# Altium schematic symbol library conn_program.SchLib: 18 symbols
Pins are listed as number, name and electrical type; pins without a type are passive.

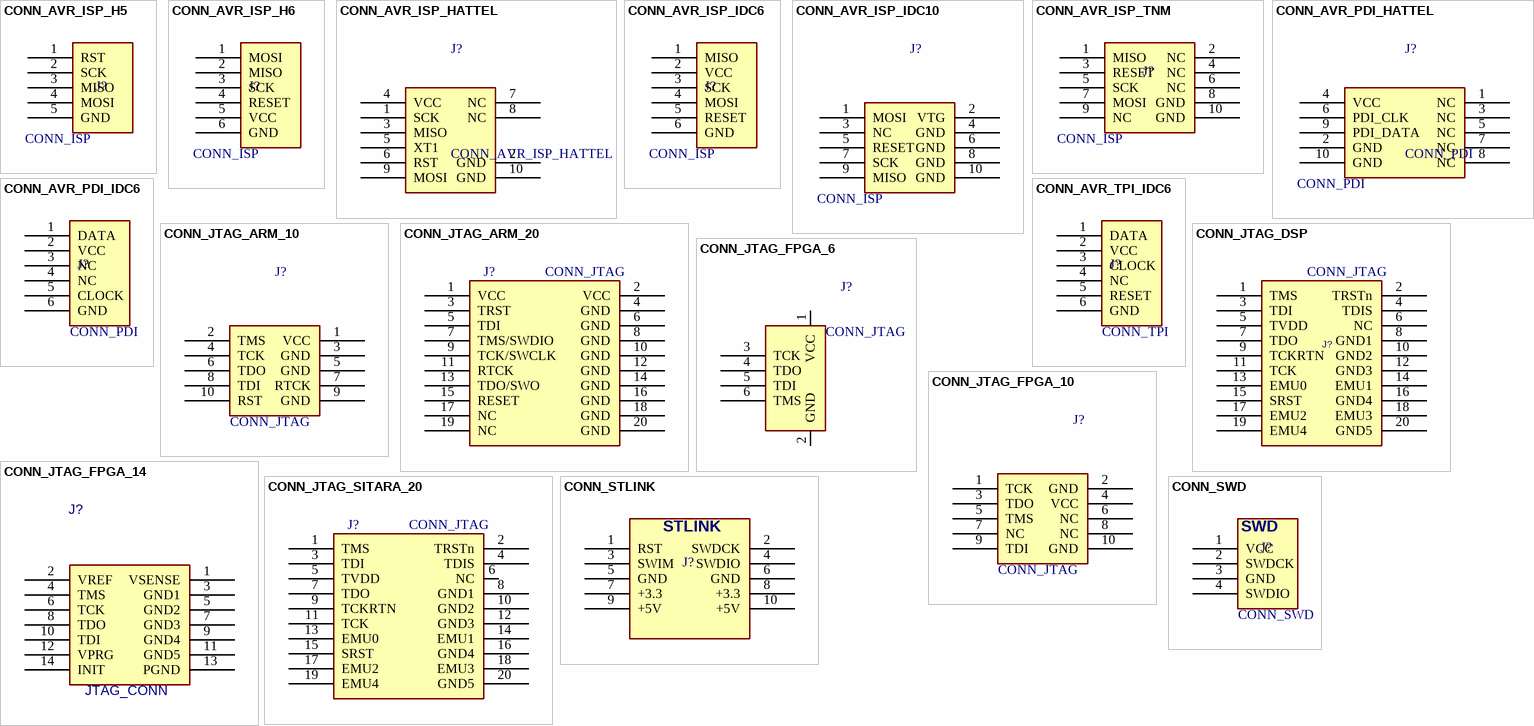
[diagram p0: symbols CONN_AVR_ISP_H5 to CONN_SWD]

## CONN_AVR_ISP_H5
designator J?, comment CONN_ISP
CONN, ISP, AVR; VALUE: CONN_ISP
footprint HDR_F_1X5 (HEADER FEMALE pitch: 2.54mm)
footprint HDR1SE_M_1X5 (HEADER, 1mm, test, SMD)
pins: 1 RST, 2 SCK, 3 MISO, 4 MOSI, 5 GND

## CONN_AVR_ISP_H6
designator J?, comment CONN_ISP
CONN, ISP, AVR ATMEGA32DIP, HEADER; VALUE: CONN_ISP
footprint HDR_F_1X6 (HEADER FEMALE pitch: 2.54mm)
pins: 1 MOSI, 2 MISO, 3 SCK, 4 RESET, 5 VCC, 6 GND

## CONN_AVR_ISP_HATTEL
designator J?
CONN, ISP, AVR, HATTEL; VALUE: CON_ISP
footprint IDC_2X5 (IDC, HEADER BOX 2X5, 10p, 2.54mm pitch)
pins: 1 SCK, 2 GND, 3 MISO, 4 VCC, 5 XT1, 6 RST, 7 NC, 8 NC, 9 MOSI, 10 GND

## CONN_AVR_ISP_IDC6
designator J?, comment CONN_ISP
CONN, ISP, AVR , HEADER BOX; VALUE: CONN_ISP
footprint IDC_2X3
pins: 1 MISO, 2 VCC, 3 SCK, 4 MOSI, 5 RESET, 6 GND

## CONN_AVR_ISP_IDC10
designator J?, comment CONN_ISP
CONN, ISP, AVR; VALUE: CONN_ISP
footprint IDC_2X5 (IDC, HEADER BOX 2X5, 10p, 2.54mm pitch)
pins: 1 MOSI, 2 VTG, 3 NC, 4 GND, 5 RESET, 6 GND, 7 SCK, 8 GND, 9 MISO, 10 GND

## CONN_AVR_ISP_TNM
designator J?, comment CONN_ISP
CONN, ISP, AVR Programmer TNM; VALUE: CONN_ISP
footprint IDC_2X5 (IDC, HEADER BOX 2X5, 10p, 2.54mm pitch)
pins: 1 MISO, 2 NC, 3 RESET, 4 NC, 5 SCK, 6 NC, 7 MOSI, 8 GND, 9 NC, 10 GND

## CONN_AVR_PDI_HATTEL
designator J?, comment CONN_PDI
CONN, ISP, AVR, PDI_HATTEL; VALUE: CONN_PDI
footprint IDC_2X5 (IDC, HEADER BOX 2X5, 10p, 2.54mm pitch)
pins: 1 NC, 2 GND, 3 NC, 4 VCC, 5 NC, 6 PDI_CLK, 7 NC, 8 NC, 9 PDI_DATA, 10 GND

## CONN_AVR_PDI_IDC6
designator J?, comment CONN_PDI
CONN, TPI, AVR , HEADER BOX; VALUE: CONN_PDI
footprint IDC_2X3
pins: 1 DATA, 2 VCC, 3 NC, 4 NC, 5 CLOCK, 6 GND

## CONN_AVR_TPI_IDC6
designator J?, comment CONN_TPI
CONN, TPI, AVR , HEADER BOX; VALUE: CONN_TPI
footprint IDC_2X3
pins: 1 DATA, 2 VCC, 3 CLOCK, 4 NC, 5 RESET, 6 GND

## CONN_JTAG_ARM_10
designator J?, comment CONN_JTAG
CONN, JTAG, ARM, 10P; VALUE: CONN_JTAG
footprint IDC_2X5 (IDC, HEADER BOX 2X5, 10p, 2.54mm pitch)
pins: 1 VCC, 2 TMS, 3 GND, 4 TCK, 5 GND, 6 TDO, 7 RTCK, 8 TDI, 9 GND, 10 RST

## CONN_JTAG_ARM_20
designator J?, comment CONN_JTAG
CONN, JTAG, ARM, 20P; VALUE: CONN_JTAG
footprint IDC_2X10
pins: 1 VCC, 2 VCC, 3 TRST, 4 GND, 5 TDI, 6 GND, 7 TMS/SWDIO, 8 GND, 9 TCK/SWCLK, 10 GND, 11 RTCK, 12 GND, 13 TDO/SWO, 14 GND, 15 RESET, 16 GND, 17 NC, 18 GND, 19 NC, 20 GND

## CONN_JTAG_DSP
designator J?, comment CONN_JTAG
CONN, JTAG, DSP, 20P; MANF: Samtec; MANF_P#: FTR-110-03-G-D-06; VALUE: CONN_JTAG
footprint HDRMINS_M_2X10 (FCI Minitek127® BTB, HEADER UNSHROUDED, SMT, 20   Part Number: 2002112100020D4LF)
footprint IDC_2X10
pins: 1 TMS, 2 TRSTn, 3 TDI, 4 TDIS, 5 TVDD, 6 NC, 7 TDO, 8 GND1 (power), 9 TCKRTN, 10 GND2 (power), 11 TCK, 12 GND3 (power), 13 EMU0, 14 EMU1, 15 SRST, 16 GND4 (power), 17 EMU2, 18 EMU3, 19 EMU4, 20 GND5 (power)

## CONN_JTAG_FPGA_6
designator J?, comment CONN_JTAG
CONN, JTAG, FPGA, HEADER 6P; VALUE: CONN_JTAG
footprint HDRR_M_1X6 (Connector; Header; 6 Position)
footprint HDR_M_1X6 (Connector; Header; 6 Position)
pins: 1 VCC, 2 GND, 3 TCK, 4 TDO, 5 TDI, 6 TMS

## CONN_JTAG_FPGA_10
designator J?, comment CONN_JTAG
CONN, JTAG, FPGA, 10P; VALUE: CONN_JTAG
footprint IDC_2X5 (IDC, HEADER BOX 2X5, 10p, 2.54mm pitch)
pins: 1 TCK, 2 GND, 3 TDO, 4 VCC, 5 TMS, 6 NC, 7 NC, 8 NC, 9 TDI, 10 GND

## CONN_JTAG_FPGA_14
designator J?, comment JTAG_CONN
CONN, JTAG, FPGA, 14P; MANF: MOLEX; DESC: DESCRIPTION; ASSEMBLY: ASSEMBLY; VALUE: JTAG_CONN
footprint IDC2S_2X7 (MOLEX 87832-1420)
footprint IDC_2X7 (IDC, HEADER BOX 2X7, 14p, 2.54mm pitch)
footprint IDC2_2X7 (Footprint not found)
pins: 1 VSENSE, 2 VREF, 3 GND1, 4 TMS, 5 GND2, 6 TCK, 7 GND3, 8 TDO, 9 GND4, 10 TDI, 11 GND5, 12 VPRG, 13 PGND, 14 INIT

## CONN_JTAG_SITARA_20
designator J?, comment CONN_JTAG
CONN, JTAG, SITARA ARM, 20P; MANF: FCI; MANF_P#: 20021121-00020D4LF; PRICE: 1.1$; VALUE: CONN_JTAG
footprint HDRMINS_M_2X10 (FCI Minitek127® BTB, HEADER UNSHROUDED, SMT, 20   Part Number: 2002112100020D4LF)
pins: 1 TMS, 2 TRSTn, 3 TDI, 4 TDIS, 5 TVDD, 6 NC, 7 TDO, 8 GND1 (power), 9 TCKRTN, 10 GND2 (power), 11 TCK, 12 GND3 (power), 13 EMU0, 14 EMU1, 15 SRST, 16 GND4 (power), 17 EMU2, 18 EMU3, 19 EMU4, 20 GND5 (power)

## CONN_STLINK
designator J?  (value not drawn)
CONN, STLINK; VALUE: CONN_STLINK
footprint IDC_2X5 (IDC, HEADER BOX 2X5, 10p, 2.54mm pitch)
footprint IDC_2X5_SMDE (IDC, HEADER BOX 2X5, 10p, 2.54mm pitch)
pins: 1 RST, 2 SWDCK, 3 SWIM, 4 SWDIO, 5 GND, 6 GND, 7 +3.3, 8 +3.3, 9 +5V, 10 +5V
text: STLINK

## CONN_SWD
designator J?
CONN, SWD, ST; VALUE: CONN_SWD
footprint WF_4 (DS1070  WF, Cvilux CI31 pitch 2.54mm)
pins: 1 VCC, 2 SWDCK, 3 GND, 4 SWDIO
text: SWD